# Altium footprint library Weather_PcbLib1.PcbLib: 20 footprints (part 2 of 2)
Each footprint in its own frame and in the unit in brackets; x right, y up, seen from the top. Pads: shape width x height; smd on the part's side, far side on the other; paste and mask are expansions set on the pad; w line width, h text height; cw(c..) or ccw(c..) is an arc to the next point about the centre after c.
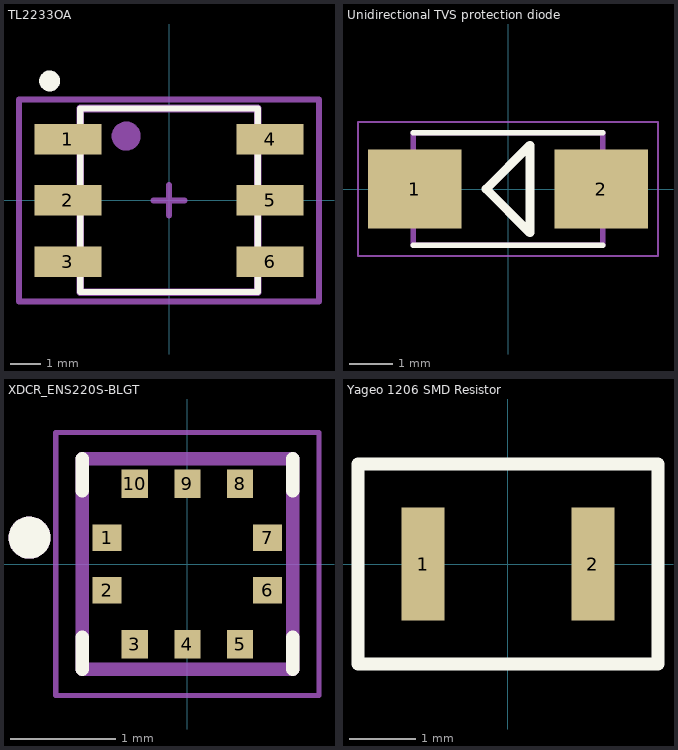
[diagram p1: the footprints below, top view; thin cyan lines are the x and y axes]

## TL2233OA [mm]
pads (6):
  rect 2.2x1 smd: 1(-3.3,2) 2(-3.3,0) 3(-3.3,-2) 4(3.3,2) 5(3.3,0) 6(3.3,-2)
Top Overlay:
  circle w0.4: c-3.9,3.9 r0.141
  lines w0.2: -2.9,-3 2.9,-3 2.9,3 -2.9,3 -2.9,2.8 -2.9,-3
Top Assembly:
  circle w0.5: c-1.4,2.1 r0.224
  lines w0.254: -2.9,-3 2.9,-3 2.9,3 -2.9,3 -2.9,-3
Top Courtyard:
  lines w0.2: -4.9,-3.3 -4.9,-3.1 -4.9,2.9 -4.9,3.3 -2.9,3.3 2.9,3.3 4.9,3.3 4.9,3 4.9,-3 4.9,-3.3 2.9,-3.3 -2.9,-3.3 -4.9,-3.3
Top Component Center:
  lines w0.2: -0.5,0 0.5,0 ; 0,-0.5 0,0.5

## Unidirectional TVS protection diode [mil] "DIOM4325X250N"
pads (2):
  rect 84x70.87 smd: 1(-84,0) 2(84,0)
Top Overlay:
  lines w5: -85.24,-50.39 85.24,-50.39 ; -85.24,50.39 85.24,50.39
  lines w7.87: -19.69,0 19.68,39.37 19.68,-39.37 -19.69,0
Mechanical 13:
  lines w5: -85.24,-50.39 85.24,-50.39 85.24,50.39 -85.24,50.39 -85.24,-50.39
Mechanical 15:
  lines w1.97: -134.84,-60.24 134.84,-60.24 134.84,60.24 -134.84,60.24 -134.84,-60.24
3D body "SMAJ10A.STEP": height 98.93, standoff 0.5, extent -101.18,-50.39 101.18,50.39

## XDCR_ENS220S-BLGT [mm]
height 0.8
pads (10):
  rect 0.275x0.25 smd mask+0.05: 1(-0.763,0.25) 2(-0.763,-0.25) 6(0.763,-0.25) 7(0.763,0.25)
  rect 0.25x0.275 smd mask+0.05: 3(-0.5,-0.763) 4(0,-0.763) 5(0.5,-0.763) 8(0.5,0.763) 9(0,0.763) 10(-0.5,0.763)
Top Overlay:
  circle w0.2: c-1.5,0.25 r0.1
  lines w0.127: -1,-1 -1,-0.695 ; -1,0.695 -1,1 ; 1,-1 1,-0.695 ; 1,0.695 1,1
Mechanical 13:
  circle w0.2: c-1.5,0.25 r0.1
  lines w0.127: -1,-1 -1,1 1,1 1,-1 -1,-1
Mechanical 15:
  lines w0.05: -1.25,-1.25 1.25,-1.25 1.25,1.25 -1.25,1.25 -1.25,-1.25
3D body "step_temp.STEP": height 0.75, standoff 0, extent -1,-1 1,1

## Yageo 1206 SMD Resistor [mm] "RC1206FR-0720KL"
pads (2):
  rect 0.65x1.7 smd: 1(-1.275,0) 2(1.275,0)
Top Overlay:
  lines w0.2: -2.25,-1.5 2.25,-1.5 2.25,1.5 -2.25,1.5 -2.25,0 -2.25,-1.5
3D body "RC1206FR-0720KL.STEP": height 0.66, standoff 0.01, extent -1.55,-0.8 1.55,0.8